# Altium schematic symbol library TLC2264CDR.Schlib: 1 symbol
Pins are listed as number, name and electrical type; pins without a type are passive.

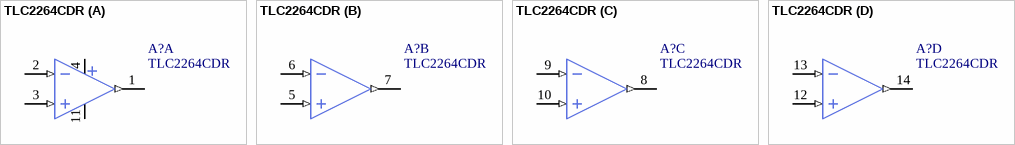
[diagram p0: symbol TLC2264CDR]

## TLC2264CDR
designator A?
part A pins: 1 OUT1 (out), 2 IN-1 (in), 3 IN+1 (in), 4 VDD (power), 11 GND (power)
part B pins: 5 IN+2 (in), 6 IN-2 (in), 7 OUT2 (out)
part C pins: 8 OUT3 (out), 9 IN-3 (in), 10 IN+3 (in)
part D pins: 12 IN+4 (in), 13 IN-4 (in), 14 OUT4 (out)